# Altium schematic symbol library SCH - FET - N-CH.SCHLIB: 1 symbol
Pins are listed as number, name and electrical type; pins without a type are passive.

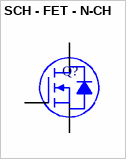
[diagram p0: symbol SCH - FET - N-CH]

## SCH - FET - N-CH
designator Q?
pins: 1 G, 2 S, 3 D